# Altium footprint library PCB - CONNECTOR - HARWIN - HARWIN M20-9740545.PcbLib: 1 footprints
Each footprint in its own frame and in the unit in brackets; x right, y up, seen from the top. Pads: shape width x height; smd on the part's side, far side on the other; paste and mask are expansions set on the pad; w line width, h text height; cw(c..) or ccw(c..) is an arc to the next point about the centre after c.
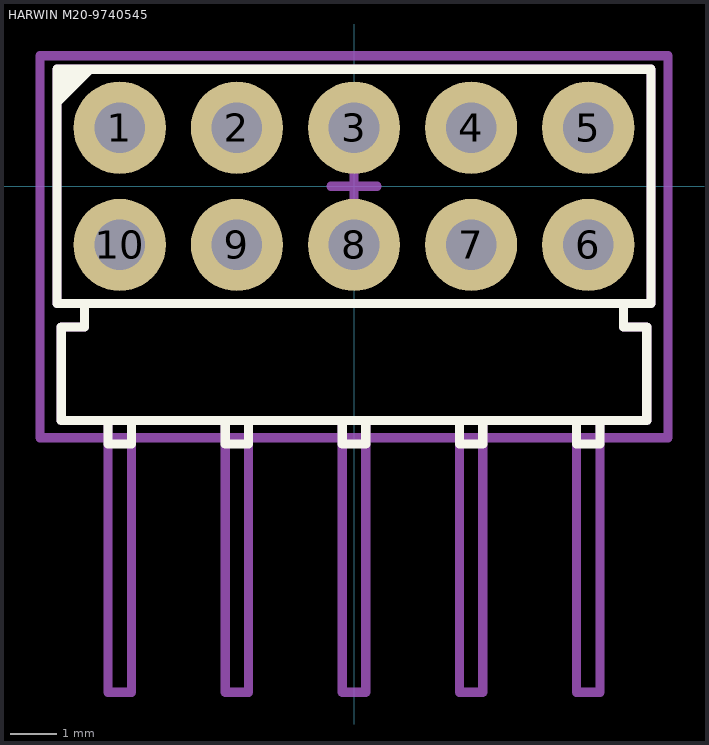
[diagram p0: the footprint, top view; thin cyan lines are the x and y axes]

## HARWIN M20-9740545 [mm] "2.54mm DIL PC TAIL PIN HEADER ASSEMBLY"
height 2.54
pads (10):
  round 2 hole 1.1: 1(-5.08,1.27) 2(-2.54,1.27) 3(0,1.27) 4(2.54,1.27) 5(5.08,1.27) 6(5.08,-1.27) 7(2.54,-1.27) 8(0,-1.27) 9(-2.54,-1.27) 10(-5.08,-1.27)
Top Overlay:
  region: -6.46,2.57 -6.46,1.67 -5.56,2.57
  lines w0.2: -5.842,-2.54 -5.842,-3.048 -6.35,-3.048 -6.35,-5.08 6.35,-5.08 6.35,-3.048 5.842,-3.048 5.842,-2.54 ; -5.334,-5.08 -5.334,-5.588 -4.826,-5.588 -4.826,-5.08 ; -2.794,-5.08 -2.794,-5.588 -2.286,-5.588 -2.286,-5.08 ; -0.254,-5.08 -0.254,-5.588 0.254,-5.588 0.254,-5.08 ; 2.286,-5.08 2.286,-5.588 2.794,-5.588 2.794,-5.08 ; 4.826,-5.08 4.826,-5.588 5.334,-5.588 5.334,-5.08 ; -6.44,-2.54 -6.44,2.54 6.44,2.54 6.44,-2.54 -6.44,-2.54
Top Assembly:
  lines w0.2: -5.334,-2.54 -5.842,-2.54 -5.842,-3.048 -6.35,-3.048 -6.35,-5.08 -5.334,-5.08 -5.334,-10.97 -4.826,-10.97 -4.826,-5.08 -2.794,-5.08 -2.794,-10.97 -2.286,-10.97 -2.286,-5.08 -0.254,-5.08 -0.254,-10.97 0.254,-10.97 0.254,-5.08 2.286,-5.08 2.286,-10.97 2.794,-10.97 2.794,-5.08 4.826,-5.08 4.826,-10.97 5.334,-10.97 5.334,-5.08 6.35,-5.08 6.35,-3.048 5.842,-3.048 5.842,-2.54 5.334,-2.54 ; -0.5,0 0.5,0 ; 0,-0.5 0,0.5 ; -6.44,-2.54 6.44,-2.54 6.44,2.54 -6.44,2.54 -6.44,-2.54
Top Courtyard (Mech15):
  lines w0.2: -6.81,-5.454 6.81,-5.454 6.81,2.83 -6.81,2.83 -6.81,-5.454
3D body "M20-7830542.step": height 5, standoff -3.04, extent -6.35,-10.97 6.35,1.59